# Altium footprint library Resistor.PcbLib: 6 footprints
Each footprint in its own frame and in the unit in brackets; x right, y up, seen from the top. Pads: shape width x height; smd on the part's side, far side on the other; paste and mask are expansions set on the pad; w line width, h text height; cw(c..) or ccw(c..) is an arc to the next point about the centre after c.
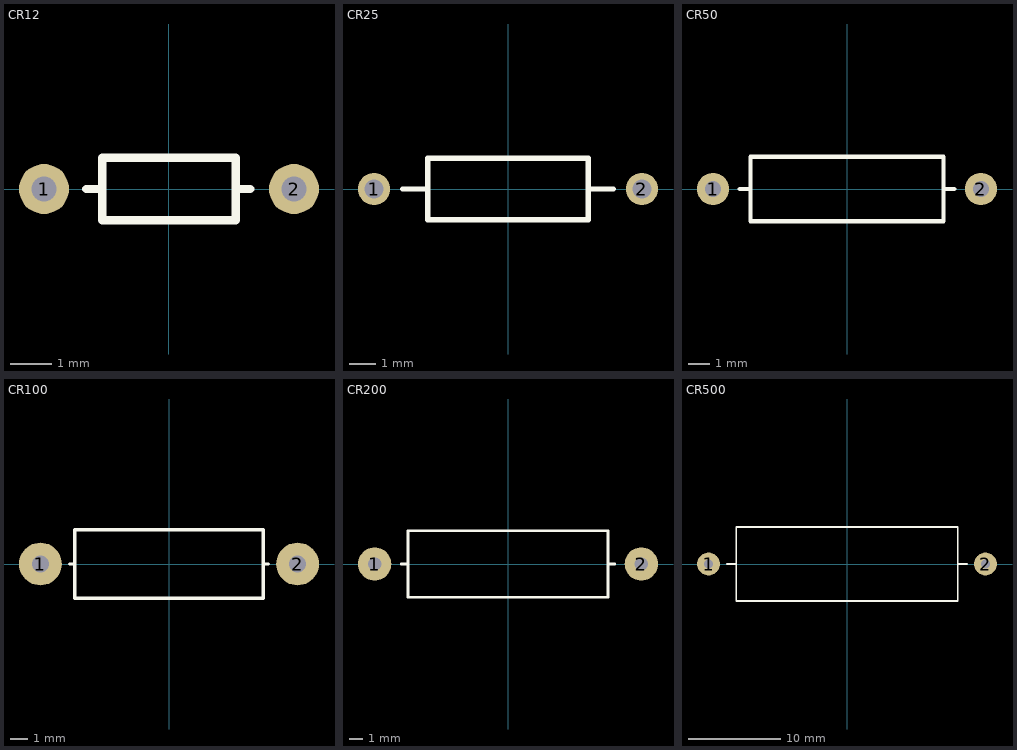
[diagram p0: the footprints below, top view; thin cyan lines are the x and y axes]

## CR12 [mm] "Through Hole Carbon Film Resistor - 1/8W (0.125W)"
pads (2):
  round 1.2 hole 0.6: 1(-3,0) 2(3,0)
Top Overlay:
  lines w0.2: -1.984,0 -1.603,0 ; 1.699,0 1.953,0 ; -1.6,-0.75 1.6,-0.75 1.6,0.75 -1.6,0.75 -1.6,-0.75

## CR25 [mm] "Through Hole Carbon Film Resistor - 1/4W (0.25W)"
pads (2):
  round 1.2 hole 0.7: 1(-5,0) 2(5,0)
Top Overlay:
  lines w0.2: -3.937,0 -3.048,0 ; 3.048,0 3.937,0 ; -3,-1.15 -3,1.15 3,1.15 3,-1.15 -3,-1.15

## CR50 [mm] "Through Hole Carbon Film Resistor - 1/2W (0.5W)"
pads (2):
  round 1.5 hole 0.75: 1(-6.25,0) 2(6.25,0)
Top Overlay:
  lines w0.2: -5,0 -4.5,0 ; 4.5,0 5,0 ; -4.5,-1.5 4.5,-1.5 4.5,1.5 -4.5,1.5 -4.5,-1.5

## CR100 [mm] "Through Hole Carbon Film Resistor - 1W"
pads (2):
  round 2.5 hole 1: 1(-7.5,0) 2(7.5,0)
Top Overlay:
  lines w0.2: -5.8,0 -5.5,0 ; 5.5,0 5.8,0 ; -5.5,-2 -5.5,2 5.5,2 5.5,-2 -5.5,-2

## CR200 [mm] "Through Hole Carbon Film Resistor - 2W"
pads (2):
  round 2.5 hole 1: 1(-10,0) 2(10,0)
Top Overlay:
  lines w0.2: -8,0 -7.5,0 ; 7.5,0 8,0 ; -7.5,-2.5 7.5,-2.5 7.5,2.5 -7.5,2.5 -7.5,-2.5

## CR500 [mm] "Through Hole Carbon Film Resistor - 5W"
pads (2):
  round 2.5 hole 1: 1(-15,0) 2(15,0)
Top Overlay:
  lines w0.2: -13,0 -12,0 ; 12,0 13,0 ; -12,-4 -12,4 12,4 12,-4 -12,-4